# Altium footprint library Connectors_Header_2.54mm.PcbLib: 13 footprints
Each footprint in its own frame and in the unit in brackets; x right, y up, seen from the top. Pads: shape width x height; smd on the part's side, far side on the other; paste and mask are expansions set on the pad; w line width, h text height; cw(c..) or ccw(c..) is an arc to the next point about the centre after c.
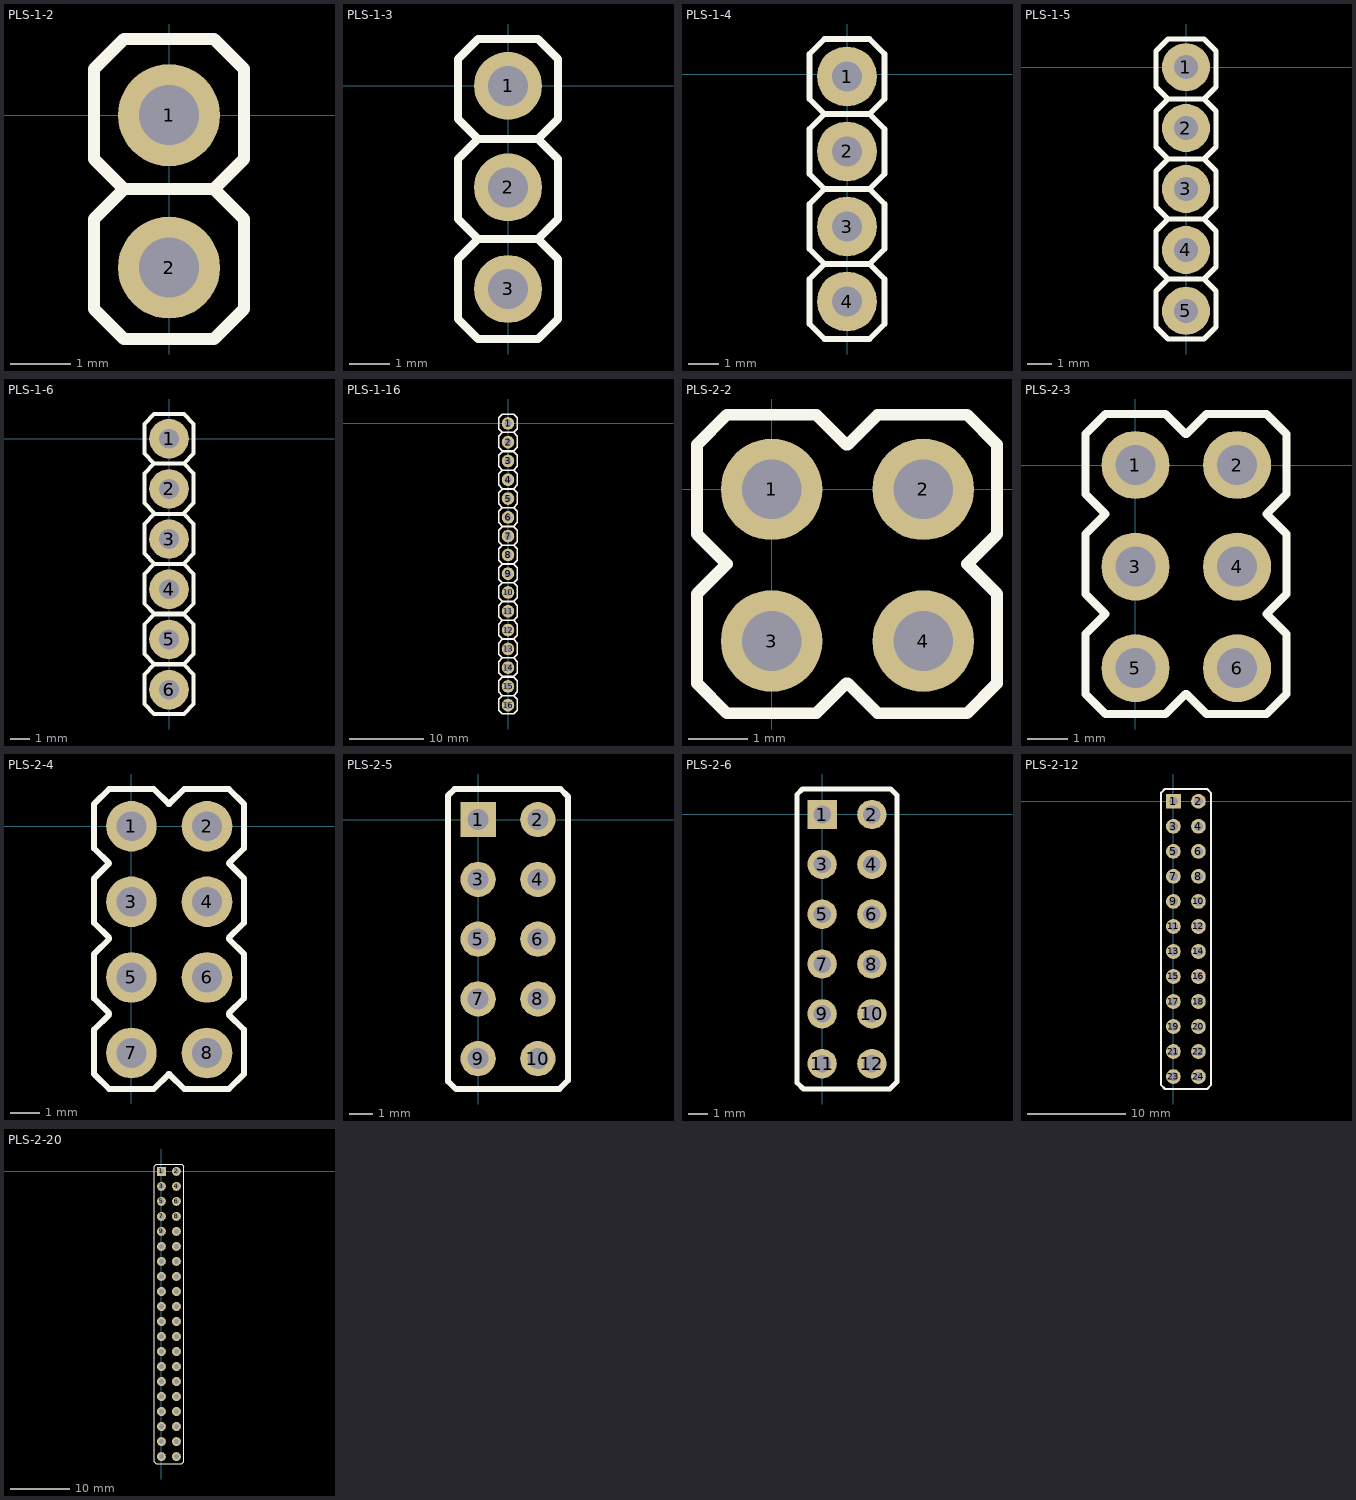
[diagram p0: the footprints below, top view; thin cyan lines are the x and y axes]

## PLS-1-2 [mm]
pads (2):
  round 1.7 hole 1 paste+0: 1(0,0) 2(0,-2.54)
Top Overlay:
  lines w0.2: -0.75,-1.23 -1.25,-0.73 -1.25,0.77 -0.75,1.27 0.75,1.27 1.25,0.77 1.25,-0.73 0.75,-1.23 ; -0.75,-1.23 -1.25,-1.73 -1.25,-3.23 -0.75,-3.73 0.75,-3.73 1.25,-3.23 1.25,-1.73 0.75,-1.23 ; -0.75,-1.23 0.75,-1.23
3D body "User Library-PLS-1.STEP": height 8.44, standoff -3, extent -1.27,-1.27 1.27,1.27
3D body "User Library-PLS-1.STEP": height 8.44, standoff -3, extent -1.27,-3.81 1.27,-1.27

## PLS-1-3 [mm]
pads (3):
  round 1.7 hole 1 paste+0: 1(0,0) 2(0,-2.54) 3(0,-5.08)
Top Overlay:
  lines w0.2: -0.75,-3.83 -1.25,-3.33 -1.25,-1.83 -0.75,-1.33 ; -0.75,-3.83 -1.25,-4.33 -1.25,-5.83 -0.75,-6.33 0.75,-6.33 1.25,-5.83 1.25,-4.33 0.75,-3.83 ; -0.75,-3.83 0.75,-3.83 ; -0.75,-1.33 -1.25,-0.83 -1.25,0.67 -0.75,1.17 0.75,1.17 1.25,0.67 1.25,-0.83 0.75,-1.33 ; -0.75,-1.33 0.75,-1.33 ; 0.75,-3.83 1.25,-3.33 1.25,-1.83 0.75,-1.33
3D body "User Library-PLS-1.STEP": height 8.44, standoff -3, extent -1.27,-1.27 1.27,1.27
3D body "User Library-PLS-1.STEP": height 8.44, standoff -3, extent -1.27,-3.81 1.27,-1.27
3D body "User Library-PLS-1.STEP": height 8.44, standoff -3, extent -1.27,-6.35 1.27,-3.81

## PLS-1-4 [mm]
pads (4):
  round 2 hole 1: 1(0,-0.08) 2(0,-2.58) 3(0,-5.08) 4(0,-7.58)
Top Overlay:
  lines w0.2: -0.75,-6.33 0.75,-6.33 ; -0.75,-6.33 -1.25,-5.83 -1.25,-4.33 -0.75,-3.83 ; -0.75,-6.33 -1.25,-6.83 -1.25,-8.33 -0.75,-8.83 0.75,-8.83 1.25,-8.33 1.25,-6.83 0.75,-6.33 ; -0.75,-3.83 -1.25,-3.33 -1.25,-1.83 -0.75,-1.33 ; -0.75,-3.83 0.75,-3.83 ; -0.75,-1.33 0.75,-1.33 ; -0.75,-1.33 -1.25,-0.83 -1.25,0.67 -0.75,1.17 0.75,1.17 1.25,0.67 1.25,-0.83 0.75,-1.33 ; 0.75,-6.33 1.25,-5.83 1.25,-4.33 0.75,-3.83 ; 0.75,-3.83 1.25,-3.33 1.25,-1.83 0.75,-1.33
3D body "User Library-PLS-1.STEP": height 8.44, standoff -3, extent -1.27,-8.93 1.27,-6.39
3D body "User Library-PLS-1.STEP": height 8.44, standoff -3, extent -1.27,-1.35 1.27,1.19
3D body "User Library-PLS-1.STEP": height 8.44, standoff -3, extent -1.27,-3.89 1.27,-1.35
3D body "User Library-PLS-1.STEP": height 8.44, standoff -3, extent -1.27,-6.43 1.27,-3.89

## PLS-1-5 [mm]
pads (5):
  round 2 hole 1: 1(0,0) 2(0,-2.54) 3(0,-5.08) 4(0,-7.62) 5(0,-10.16)
Top Overlay:
  lines w0.2: -0.75,-8.83 0.75,-8.83 ; -0.75,-8.83 -1.25,-9.33 -1.25,-10.83 -0.75,-11.33 0.75,-11.33 1.25,-10.83 1.25,-9.33 0.75,-8.83 ; -0.75,-8.83 -1.25,-8.33 -1.25,-6.83 -0.75,-6.33 ; -0.75,-8.83 0.75,-8.83 ; -0.75,-6.33 -1.25,-5.83 -1.25,-4.33 -0.75,-3.83 ; -0.75,-6.33 0.75,-6.33 ; -0.75,-3.83 -1.25,-3.33 -1.25,-1.83 -0.75,-1.33 ; -0.75,-3.83 0.75,-3.83 ; -0.75,-1.33 -1.25,-0.83 -1.25,0.67 -0.75,1.17 0.75,1.17 1.25,0.67 1.25,-0.83 0.75,-1.33 ; -0.75,-1.33 0.75,-1.33 ; 0.75,-8.83 1.25,-8.33 1.25,-6.83 0.75,-6.33 ; 0.75,-6.33 1.25,-5.83 1.25,-4.33 0.75,-3.83 ; 0.75,-3.83 1.25,-3.33 1.25,-1.83 0.75,-1.33
3D body "User Library-PLS-1.STEP": height 8.44, standoff -3, extent -1.27,-11.43 1.27,-8.89
3D body "User Library-PLS-1.STEP": height 8.44, standoff -3, extent -1.27,-8.89 1.27,-6.35
3D body "User Library-PLS-1.STEP": height 8.44, standoff -3, extent -1.27,-6.35 1.27,-3.81
3D body "User Library-PLS-1.STEP": height 8.44, standoff -3, extent -1.27,-3.81 1.27,-1.27
3D body "User Library-PLS-1.STEP": height 8.44, standoff -3, extent -1.27,-1.27 1.27,1.27

## PLS-1-6 [mm]
pads (6):
  round 2 hole 1: 1(0,0) 2(0,-2.54) 3(0,-5.08) 4(0,-7.62) 5(0,-10.16) 6(0,-12.7)
Top Overlay:
  lines w0.2: -0.75,-6.31 -1.25,-5.81 -1.25,-4.31 -0.75,-3.81 0.75,-3.81 1.25,-4.31 1.25,-5.81 0.75,-6.31 ; -0.75,-3.75 -1.25,-3.25 -1.25,-1.75 -0.75,-1.25 ; 0.75,-3.75 1.25,-3.25 1.25,-1.75 0.75,-1.25 ; -0.75,-1.25 0.75,-1.25 ; -0.75,-1.25 -1.25,-0.75 -1.25,0.75 -0.75,1.25 0.75,1.25 1.25,0.75 1.25,-0.75 0.75,-1.25 ; -1.25,-13.43 -0.75,-13.93 0.75,-13.93 1.25,-13.43 1.25,-11.93 0.75,-11.43 -0.75,-11.43 -1.25,-11.93 -1.25,-13.43 ; -1.25,-10.89 -1.25,-9.39 -0.75,-8.89 0.75,-8.89 1.25,-9.39 1.25,-10.89 0.75,-11.39 -0.75,-11.39 -1.25,-10.89 ; -1.25,-8.35 -0.75,-8.85 0.75,-8.85 1.25,-8.35 1.25,-6.85 0.75,-6.35 -0.75,-6.35 -1.25,-6.85 -1.25,-8.35
3D body "User Library-PLS-1.STEP": height 8.44, standoff -3, extent -1.27,-13.97 1.27,-11.43
3D body "User Library-PLS-1.STEP": height 8.44, standoff -3, extent -1.27,-11.43 1.27,-8.89
3D body "User Library-PLS-1.STEP": height 8.44, standoff -3, extent -1.27,-8.89 1.27,-6.35
3D body "User Library-PLS-1.STEP": height 8.44, standoff -3, extent -1.27,-6.35 1.27,-3.81
3D body "User Library-PLS-1.STEP": height 8.44, standoff -3, extent -1.27,-3.81 1.27,-1.27
3D body "User Library-PLS-1.STEP": height 8.44, standoff -3, extent -1.27,-1.27 1.27,1.27

## PLS-1-16 [mm]
pads (16):
  round 1.7 hole 1 paste+0: 1(0,0) 2(0,-2.54) 3(0,-5.08) 4(0,-7.62) 5(0,-10.16) 6(0,-12.7) 7(0,-15.24) 8(0,-17.78) 9(0,-20.32) 10(0,-22.86) 11(0,-25.4) 12(0,-27.94) 13(0,-30.48) 14(0,-33.02) 15(0,-35.56) 16(0,-38.1)
Top Overlay:
  lines w0.2: -0.75,-36.79 0.75,-36.79 ; -0.75,-36.79 -1.25,-37.29 -1.25,-38.79 -0.75,-39.29 0.75,-39.29 1.25,-38.79 1.25,-37.29 0.75,-36.79 ; -0.75,-36.79 -1.25,-36.29 -1.25,-34.79 -0.75,-34.29 0.75,-34.29 1.25,-34.79 1.25,-36.29 0.75,-36.79 ; -0.75,-31.71 0.75,-31.71 ; -0.75,-31.71 -1.25,-32.21 -1.25,-33.71 -0.75,-34.21 0.75,-34.21 1.25,-33.71 1.25,-32.21 0.75,-31.71 ; -0.75,-31.71 -1.25,-31.21 -1.25,-29.71 -0.75,-29.21 0.75,-29.21 1.25,-29.71 1.25,-31.21 0.75,-31.71 ; -0.75,-26.63 0.75,-26.63 ; -0.75,-26.63 -1.25,-27.13 -1.25,-28.63 -0.75,-29.13 0.75,-29.13 1.25,-28.63 1.25,-27.13 0.75,-26.63 ; -0.75,-26.63 -1.25,-26.13 -1.25,-24.63 -0.75,-24.13 0.75,-24.13 1.25,-24.63 1.25,-26.13 0.75,-26.63 ; -0.75,-21.55 0.75,-21.55 ; -0.75,-21.55 -1.25,-22.05 -1.25,-23.55 -0.75,-24.05 0.75,-24.05 1.25,-23.55 1.25,-22.05 0.75,-21.55 ; -0.75,-21.55 -1.25,-21.05 -1.25,-19.55 -0.75,-19.05 0.75,-19.05 1.25,-19.55 1.25,-21.05 0.75,-21.55 ; -0.75,-16.47 0.75,-16.47 ; -0.75,-16.47 -1.25,-16.97 -1.25,-18.47 -0.75,-18.97 0.75,-18.97 1.25,-18.47 1.25,-16.97 0.75,-16.47 ; -0.75,-16.47 -1.25,-15.97 -1.25,-14.47 -0.75,-13.97 0.75,-13.97 1.25,-14.47 1.25,-15.97 0.75,-16.47 ; -0.75,-11.39 0.75,-11.39 ; -0.75,-11.39 -1.25,-11.89 -1.25,-13.39 -0.75,-13.89 0.75,-13.89 1.25,-13.39 1.25,-11.89 0.75,-11.39 ; -0.75,-11.39 -1.25,-10.89 -1.25,-9.39 -0.75,-8.89 0.75,-8.89 1.25,-9.39 1.25,-10.89 0.75,-11.39 ; -0.75,-6.31 0.75,-6.31 ; -0.75,-6.31 -1.25,-6.81 -1.25,-8.31 -0.75,-8.81 0.75,-8.81 1.25,-8.31 1.25,-6.81 0.75,-6.31 ; -0.75,-6.31 -1.25,-5.81 -1.25,-4.31 -0.75,-3.81 0.75,-3.81 1.25,-4.31 1.25,-5.81 0.75,-6.31 ; -0.75,-1.23 0.75,-1.23 ; -0.75,-1.23 -1.25,-1.73 -1.25,-3.23 -0.75,-3.73 0.75,-3.73 1.25,-3.23 1.25,-1.73 0.75,-1.23 ; -0.75,-1.23 -1.25,-0.73 -1.25,0.77 -0.75,1.27 0.75,1.27 1.25,0.77 1.25,-0.73 0.75,-1.23
3D body "User Library-PLS-1.STEP": height 8.44, standoff -3, extent -1.27,-39.37 1.27,-36.83
3D body "User Library-PLS-1.STEP": height 8.44, standoff -3, extent -1.27,-36.83 1.27,-34.29
3D body "User Library-PLS-1.STEP": height 8.44, standoff -3, extent -1.27,-34.29 1.27,-31.75
3D body "User Library-PLS-1.STEP": height 8.44, standoff -3, extent -1.27,-31.75 1.27,-29.21
3D body "User Library-PLS-1.STEP": height 8.44, standoff -3, extent -1.27,-29.21 1.27,-26.67
3D body "User Library-PLS-1.STEP": height 8.44, standoff -3, extent -1.27,-26.67 1.27,-24.13
3D body "User Library-PLS-1.STEP": height 8.44, standoff -3, extent -1.27,-24.13 1.27,-21.59
3D body "User Library-PLS-1.STEP": height 8.44, standoff -3, extent -1.27,-21.59 1.27,-19.05
3D body "User Library-PLS-1.STEP": height 8.44, standoff -3, extent -1.27,-19.05 1.27,-16.51
3D body "User Library-PLS-1.STEP": height 8.44, standoff -3, extent -1.27,-16.51 1.27,-13.97
3D body "User Library-PLS-1.STEP": height 8.44, standoff -3, extent -1.27,-13.97 1.27,-11.43
3D body "User Library-PLS-1.STEP": height 8.44, standoff -3, extent -1.27,-11.43 1.27,-8.89
3D body "User Library-PLS-1.STEP": height 8.44, standoff -3, extent -1.27,-8.89 1.27,-6.35
3D body "User Library-PLS-1.STEP": height 8.44, standoff -3, extent -1.27,-6.35 1.27,-3.81
3D body "User Library-PLS-1.STEP": height 8.44, standoff -3, extent -1.27,-3.81 1.27,-1.27
3D body "User Library-PLS-1.STEP": height 8.44, standoff -3, extent -1.27,-1.27 1.27,1.27

## PLS-2-2 [mm]
pads (4):
  round 1.7 hole 1 paste+0: 1(0,0) 2(2.54,0) 3(0,-2.54) 4(2.54,-2.54)
Top Overlay:
  lines w0.2: 1.25,-3.25 0.75,-3.75 -0.75,-3.75 -1.25,-3.25 -1.25,-1.75 -0.75,-1.25 -1.25,-0.75 -1.25,0.75 -0.75,1.25 0.75,1.25 1.25,0.75 ; 1.275,-3.25 1.775,-3.75 3.275,-3.75 3.775,-3.25 3.775,-1.75 3.275,-1.25 3.775,-0.75 3.775,0.75 3.275,1.25 1.775,1.25 1.275,0.75
3D body "User Library-PLS-1.STEP": height 8.44, standoff -3, extent -1.27,-1.27 1.27,1.27
3D body "User Library-PLS-1.STEP": height 8.44, standoff -3, extent 1.27,-1.27 3.81,1.27
3D body "User Library-PLS-1.STEP": height 8.44, standoff -3, extent -1.27,-3.81 1.27,-1.27
3D body "User Library-PLS-1.STEP": height 8.44, standoff -3, extent 1.27,-3.81 3.81,-1.27

## PLS-2-3 [mm]
pads (6):
  round 1.7 hole 1 paste+0: 1(0,0) 2(2.54,0) 3(0,-2.54) 4(2.54,-2.54) 5(0,-5.08) 6(2.54,-5.08)
Top Overlay:
  lines w0.2: 1.25,-5.725 0.75,-6.225 -0.75,-6.225 -1.25,-5.725 -1.25,-4.225 -0.75,-3.725 -1.25,-3.225 -1.25,-1.725 -0.75,-1.225 -1.25,-0.725 -1.25,0.775 -0.75,1.275 0.75,1.275 1.25,0.775 ; 1.275,-5.725 1.775,-6.225 3.275,-6.225 3.775,-5.725 3.775,-4.225 3.275,-3.725 3.775,-3.225 3.775,-1.725 3.275,-1.225 3.775,-0.725 3.775,0.775 3.275,1.275 1.775,1.275 1.275,0.775
3D body "User Library-PLS-1.STEP": height 8.44, standoff -3, extent -1.27,-6.35 1.27,-3.81
3D body "User Library-PLS-1.STEP": height 8.44, standoff -3, extent 1.27,-6.35 3.81,-3.81
3D body "User Library-PLS-1.STEP": height 8.44, standoff -3, extent 1.27,-3.81 3.81,-1.27
3D body "User Library-PLS-1.STEP": height 8.44, standoff -3, extent -1.27,-3.81 1.27,-1.27
3D body "User Library-PLS-1.STEP": height 8.44, standoff -3, extent 1.27,-1.27 3.81,1.27
3D body "User Library-PLS-1.STEP": height 8.44, standoff -3, extent -1.27,-1.27 1.27,1.27

## PLS-2-4 [mm]
pads (8):
  round 1.7 hole 1 paste+0: 1(0,0) 2(2.54,0) 3(0,-2.54) 4(2.54,-2.54) 5(0,-5.08) 6(2.54,-5.08) 7(0,-7.62) 8(2.54,-7.62)
Top Overlay:
  lines w0.2: -0.75,-6.33 -1.25,-6.83 -1.25,-8.33 -0.75,-8.83 0.75,-8.83 1.25,-8.33 ; -0.75,-6.29 -1.25,-5.79 -1.25,-4.29 -0.75,-3.79 ; -0.75,-3.75 -1.25,-3.25 -1.25,-1.75 -0.75,-1.25 -1.25,-0.75 -1.25,0.75 -0.75,1.25 0.75,1.25 1.25,0.75 ; 1.275,-8.33 1.775,-8.83 3.275,-8.83 3.775,-8.33 3.775,-6.83 3.275,-6.33 ; 1.275,0.75 1.775,1.25 3.275,1.25 3.775,0.75 3.775,-0.75 3.275,-1.25 3.775,-1.75 3.775,-3.25 3.275,-3.75 ; 3.275,-6.29 3.775,-5.79 3.775,-4.29 3.275,-3.79
3D body "User Library-PLS-1.STEP": height 8.44, standoff -3, extent -1.27,-8.89 1.27,-6.35
3D body "User Library-PLS-1.STEP": height 8.44, standoff -3, extent 1.27,-8.89 3.81,-6.35
3D body "User Library-PLS-1.STEP": height 8.44, standoff -3, extent -1.27,-6.35 1.27,-3.81
3D body "User Library-PLS-1.STEP": height 8.44, standoff -3, extent 1.27,-6.35 3.81,-3.81
3D body "User Library-PLS-1.STEP": height 8.44, standoff -3, extent 1.27,-3.81 3.81,-1.27
3D body "User Library-PLS-1.STEP": height 8.44, standoff -3, extent -1.27,-3.81 1.27,-1.27
3D body "User Library-PLS-1.STEP": height 8.44, standoff -3, extent 1.27,-1.27 3.81,1.27
3D body "User Library-PLS-1.STEP": height 8.44, standoff -3, extent -1.27,-1.27 1.27,1.27

## PLS-2-5 [mm]
pads (10):
  rect 1.5x1.5 hole 0.9: 1(0,0)
  round 1.5 hole 0.9: 2(2.54,0) 3(0,-2.54) 4(2.54,-2.54) 5(0,-5.08) 6(2.54,-5.08) 7(0,-7.62) 8(2.54,-7.62) 9(0,-10.16) 10(2.54,-10.16)
Top Overlay:
  lines w0.254: -1.27,-11.13 -1.27,1.03 -1,1.3 3.5,1.3 3.81,0.99 3.81,-11.09 3.45,-11.45 -0.95,-11.45 -1.27,-11.13
3D body "User Library-PLS-1.STEP": height 8.44, standoff -3, extent -1.27,-1.27 1.27,1.27
3D body "User Library-PLS-1.STEP": height 8.44, standoff -3, extent 1.27,-1.27 3.81,1.27
3D body "User Library-PLS-1.STEP": height 8.44, standoff -3, extent -1.27,-3.81 1.27,-1.27
3D body "User Library-PLS-1.STEP": height 8.44, standoff -3, extent 1.27,-3.81 3.81,-1.27
3D body "User Library-PLS-1.STEP": height 8.44, standoff -3, extent -1.27,-6.35 1.27,-3.81
3D body "User Library-PLS-1.STEP": height 8.44, standoff -3, extent 1.27,-6.35 3.81,-3.81
3D body "User Library-PLS-1.STEP": height 8.44, standoff -3, extent 1.27,-8.89 3.81,-6.35
3D body "User Library-PLS-1.STEP": height 8.44, standoff -3, extent -1.27,-8.89 1.27,-6.35
3D body "User Library-PLS-1.STEP": height 8.44, standoff -3, extent -1.27,-11.43 1.27,-8.89
3D body "User Library-PLS-1.STEP": height 8.44, standoff -3, extent 1.27,-11.43 3.81,-8.89

## PLS-2-6 [mm]
pads (12):
  rect 1.5x1.5 hole 0.9: 1(0,-0.025)
  round 1.5 hole 0.9: 2(2.54,-0.025) 3(0,-2.565) 4(2.54,-2.565) 5(0,-5.105) 6(2.54,-5.105) 7(0,-7.645) 8(2.54,-7.645) 9(0,-10.185) 10(2.54,-10.185) 11(0,-12.725) 12(2.54,-12.725)
Top Overlay:
  lines w0.254: -1.27,-13.7 -1.27,1.005 -1,1.275 3.5,1.275 3.81,0.965 3.81,-13.65 ; -1.27,-13.695 -0.95,-14.015 3.45,-14.015 3.81,-13.655
3D body "User Library-PLS-1.STEP": height 8.44, standoff -3, extent 1.27,-13.995 3.81,-11.455
3D body "User Library-PLS-1.STEP": height 8.44, standoff -3, extent -1.27,-13.995 1.27,-11.455
3D body "User Library-PLS-1.STEP": height 8.44, standoff -3, extent -1.27,-1.295 1.27,1.245
3D body "User Library-PLS-1.STEP": height 8.44, standoff -3, extent 1.27,-1.295 3.81,1.245
3D body "User Library-PLS-1.STEP": height 8.44, standoff -3, extent -1.27,-3.835 1.27,-1.295
3D body "User Library-PLS-1.STEP": height 8.44, standoff -3, extent 1.27,-3.835 3.81,-1.295
3D body "User Library-PLS-1.STEP": height 8.44, standoff -3, extent -1.27,-6.375 1.27,-3.835
3D body "User Library-PLS-1.STEP": height 8.44, standoff -3, extent 1.27,-6.375 3.81,-3.835
3D body "User Library-PLS-1.STEP": height 8.44, standoff -3, extent 1.27,-8.915 3.81,-6.375
3D body "User Library-PLS-1.STEP": height 8.44, standoff -3, extent -1.27,-8.915 1.27,-6.375
3D body "User Library-PLS-1.STEP": height 8.44, standoff -3, extent -1.27,-11.455 1.27,-8.915
3D body "User Library-PLS-1.STEP": height 8.44, standoff -3, extent 1.27,-11.455 3.81,-8.915

## PLS-2-12 [mm]
pads (24):
  rect 1.5x1.5 hole 0.9: 1(0,0)
  round 1.5 hole 0.9: 2(2.54,0) 3(0,-2.54) 4(2.54,-2.54) 5(0,-5.08) 6(2.54,-5.08) 7(0,-7.62) 8(2.54,-7.62) 9(0,-10.16) 10(2.54,-10.16) 11(0,-12.7) 12(2.54,-12.7) 13(0,-15.24) 14(2.54,-15.24) 15(0,-17.78) 16(2.54,-17.78) 17(0,-20.32) 18(2.54,-20.32) 19(0,-22.86) 20(2.54,-22.86) 21(0,-25.4) 22(2.54,-25.4) 23(0,-27.94) 24(2.54,-27.94)
Top Overlay:
  lines w0.2: -1.25,-28.8 -0.85,-29.2 3.425,-29.2 3.81,-28.815 3.81,0.865 3.425,1.25 -0.875,1.25 -1.25,0.875 -1.25,-28.8
3D body "User Library-PLS-1.STEP": height 8.44, standoff -3, extent -1.27,-1.27 1.27,1.27
3D body "User Library-PLS-1.STEP": height 8.44, standoff -3, extent 1.27,-1.27 3.81,1.27
3D body "User Library-PLS-1.STEP": height 8.44, standoff -3, extent -1.27,-3.81 1.27,-1.27
3D body "User Library-PLS-1.STEP": height 8.44, standoff -3, extent 1.27,-3.81 3.81,-1.27
3D body "User Library-PLS-1.STEP": height 8.44, standoff -3, extent -1.27,-6.35 1.27,-3.81
3D body "User Library-PLS-1.STEP": height 8.44, standoff -3, extent 1.27,-6.35 3.81,-3.81
3D body "User Library-PLS-1.STEP": height 8.44, standoff -3, extent -1.27,-8.89 1.27,-6.35
3D body "User Library-PLS-1.STEP": height 8.44, standoff -3, extent 1.27,-8.89 3.81,-6.35
3D body "User Library-PLS-1.STEP": height 8.44, standoff -3, extent -1.27,-11.43 1.27,-8.89
3D body "User Library-PLS-1.STEP": height 8.44, standoff -3, extent 1.27,-11.43 3.81,-8.89
3D body "User Library-PLS-1.STEP": height 8.44, standoff -3, extent -1.27,-13.97 1.27,-11.43
3D body "User Library-PLS-1.STEP": height 8.44, standoff -3, extent 1.27,-13.97 3.81,-11.43
3D body "User Library-PLS-1.STEP": height 8.44, standoff -3, extent -1.27,-16.51 1.27,-13.97
3D body "User Library-PLS-1.STEP": height 8.44, standoff -3, extent 1.27,-16.51 3.81,-13.97
3D body "User Library-PLS-1.STEP": height 8.44, standoff -3, extent -1.27,-19.05 1.27,-16.51
3D body "User Library-PLS-1.STEP": height 8.44, standoff -3, extent 1.27,-19.05 3.81,-16.51
3D body "User Library-PLS-1.STEP": height 8.44, standoff -3, extent -1.27,-21.59 1.27,-19.05
3D body "User Library-PLS-1.STEP": height 8.44, standoff -3, extent 1.27,-21.59 3.81,-19.05
3D body "User Library-PLS-1.STEP": height 8.44, standoff -3, extent -1.27,-24.13 1.27,-21.59
3D body "User Library-PLS-1.STEP": height 8.44, standoff -3, extent 1.27,-24.13 3.81,-21.59
3D body "User Library-PLS-1.STEP": height 8.44, standoff -3, extent -1.27,-26.67 1.27,-24.13
3D body "User Library-PLS-1.STEP": height 8.44, standoff -3, extent 1.27,-26.67 3.81,-24.13
3D body "User Library-PLS-1.STEP": height 8.44, standoff -3, extent -1.27,-29.21 1.27,-26.67
3D body "User Library-PLS-1.STEP": height 8.44, standoff -3, extent 1.27,-29.21 3.81,-26.67

## PLS-2-20 [mm]
pads (40):
  rect 1.5x1.5 hole 0.9: 1(0,0)
  round 1.5 hole 0.9: 2(2.54,0) 3(0,-2.54) 4(2.54,-2.54) 5(0,-5.08) 6(2.54,-5.08) 7(0,-7.62) 8(2.54,-7.62) 9(0,-10.16) 10(2.54,-10.16) 11(0,-12.7) 12(2.54,-12.7) 13(0,-15.24) 14(2.54,-15.24) 15(0,-17.78) 16(2.54,-17.78) 17(0,-20.32) 18(2.54,-20.32) 19(0,-22.86) 20(2.54,-22.86) 21(0,-25.4) 22(2.54,-25.4) 23(0,-27.94) 24(2.54,-27.94) 25(0,-30.475) 26(2.54,-30.475) 27(0,-33.015) 28(2.54,-33.015) 29(0,-35.555) 30(2.54,-35.555) 31(0,-38.095) 32(2.54,-38.095) 33(0,-40.635) 34(2.54,-40.635) 35(0,-43.175) 36(2.54,-43.175) 37(0,-45.715) 38(2.54,-45.715) 39(0,-48.255) 40(2.54,-48.255)
Top Overlay:
  lines w0.2: -1.25,-49.115 -1.25,-28.8 -1.25,0.875 -0.875,1.25 3.425,1.25 3.81,0.865 3.81,-28.815 3.81,-49.13 3.425,-49.515 -0.85,-49.515 -1.25,-49.115
3D body "User Library-PLS-1.STEP": height 8.44, standoff -3, extent 1.27,-49.525 3.81,-46.985
3D body "User Library-PLS-1.STEP": height 8.44, standoff -3, extent -1.27,-49.525 1.27,-46.985
3D body "User Library-PLS-1.STEP": height 8.44, standoff -3, extent 1.27,-46.985 3.81,-44.445
3D body "User Library-PLS-1.STEP": height 8.44, standoff -3, extent -1.27,-46.985 1.27,-44.445
3D body "User Library-PLS-1.STEP": height 8.44, standoff -3, extent 1.27,-44.445 3.81,-41.905
3D body "User Library-PLS-1.STEP": height 8.44, standoff -3, extent -1.27,-44.445 1.27,-41.905
3D body "User Library-PLS-1.STEP": height 8.44, standoff -3, extent 1.27,-41.905 3.81,-39.365
3D body "User Library-PLS-1.STEP": height 8.44, standoff -3, extent -1.27,-41.905 1.27,-39.365
3D body "User Library-PLS-1.STEP": height 8.44, standoff -3, extent 1.27,-39.365 3.81,-36.825
3D body "User Library-PLS-1.STEP": height 8.44, standoff -3, extent -1.27,-39.365 1.27,-36.825
3D body "User Library-PLS-1.STEP": height 8.44, standoff -3, extent 1.27,-36.825 3.81,-34.285
3D body "User Library-PLS-1.STEP": height 8.44, standoff -3, extent -1.27,-36.825 1.27,-34.285
3D body "User Library-PLS-1.STEP": height 8.44, standoff -3, extent 1.27,-34.285 3.81,-31.745
3D body "User Library-PLS-1.STEP": height 8.44, standoff -3, extent -1.27,-34.285 1.27,-31.745
3D body "User Library-PLS-1.STEP": height 8.44, standoff -3, extent 1.27,-31.745 3.81,-29.205
3D body "User Library-PLS-1.STEP": height 8.44, standoff -3, extent -1.27,-31.745 1.27,-29.205
3D body "User Library-PLS-1.STEP": height 8.44, standoff -3, extent -1.27,-1.27 1.27,1.27
3D body "User Library-PLS-1.STEP": height 8.44, standoff -3, extent 1.27,-1.27 3.81,1.27
3D body "User Library-PLS-1.STEP": height 8.44, standoff -3, extent -1.27,-3.81 1.27,-1.27
3D body "User Library-PLS-1.STEP": height 8.44, standoff -3, extent 1.27,-3.81 3.81,-1.27
3D body "User Library-PLS-1.STEP": height 8.44, standoff -3, extent -1.27,-6.35 1.27,-3.81
3D body "User Library-PLS-1.STEP": height 8.44, standoff -3, extent 1.27,-6.35 3.81,-3.81
3D body "User Library-PLS-1.STEP": height 8.44, standoff -3, extent -1.27,-8.89 1.27,-6.35
3D body "User Library-PLS-1.STEP": height 8.44, standoff -3, extent 1.27,-8.89 3.81,-6.35
3D body "User Library-PLS-1.STEP": height 8.44, standoff -3, extent -1.27,-11.43 1.27,-8.89
3D body "User Library-PLS-1.STEP": height 8.44, standoff -3, extent 1.27,-11.43 3.81,-8.89
3D body "User Library-PLS-1.STEP": height 8.44, standoff -3, extent -1.27,-13.97 1.27,-11.43
3D body "User Library-PLS-1.STEP": height 8.44, standoff -3, extent 1.27,-13.97 3.81,-11.43
3D body "User Library-PLS-1.STEP": height 8.44, standoff -3, extent -1.27,-16.51 1.27,-13.97
3D body "User Library-PLS-1.STEP": height 8.44, standoff -3, extent 1.27,-16.51 3.81,-13.97
3D body "User Library-PLS-1.STEP": height 8.44, standoff -3, extent -1.27,-19.05 1.27,-16.51
3D body "User Library-PLS-1.STEP": height 8.44, standoff -3, extent 1.27,-19.05 3.81,-16.51
3D body "User Library-PLS-1.STEP": height 8.44, standoff -3, extent -1.27,-21.59 1.27,-19.05
3D body "User Library-PLS-1.STEP": height 8.44, standoff -3, extent 1.27,-21.59 3.81,-19.05
3D body "User Library-PLS-1.STEP": height 8.44, standoff -3, extent -1.27,-24.13 1.27,-21.59
3D body "User Library-PLS-1.STEP": height 8.44, standoff -3, extent 1.27,-24.13 3.81,-21.59
3D body "User Library-PLS-1.STEP": height 8.44, standoff -3, extent -1.27,-26.67 1.27,-24.13
3D body "User Library-PLS-1.STEP": height 8.44, standoff -3, extent 1.27,-26.67 3.81,-24.13
3D body "User Library-PLS-1.STEP": height 8.44, standoff -3, extent -1.27,-29.21 1.27,-26.67
3D body "User Library-PLS-1.STEP": height 8.44, standoff -3, extent 1.27,-29.21 3.81,-26.67